# Altium schematic symbol library GVI_Z7_Carrier.SchLib: 1 symbol
Pins are listed as number, name and electrical type; pins without a type are passive.

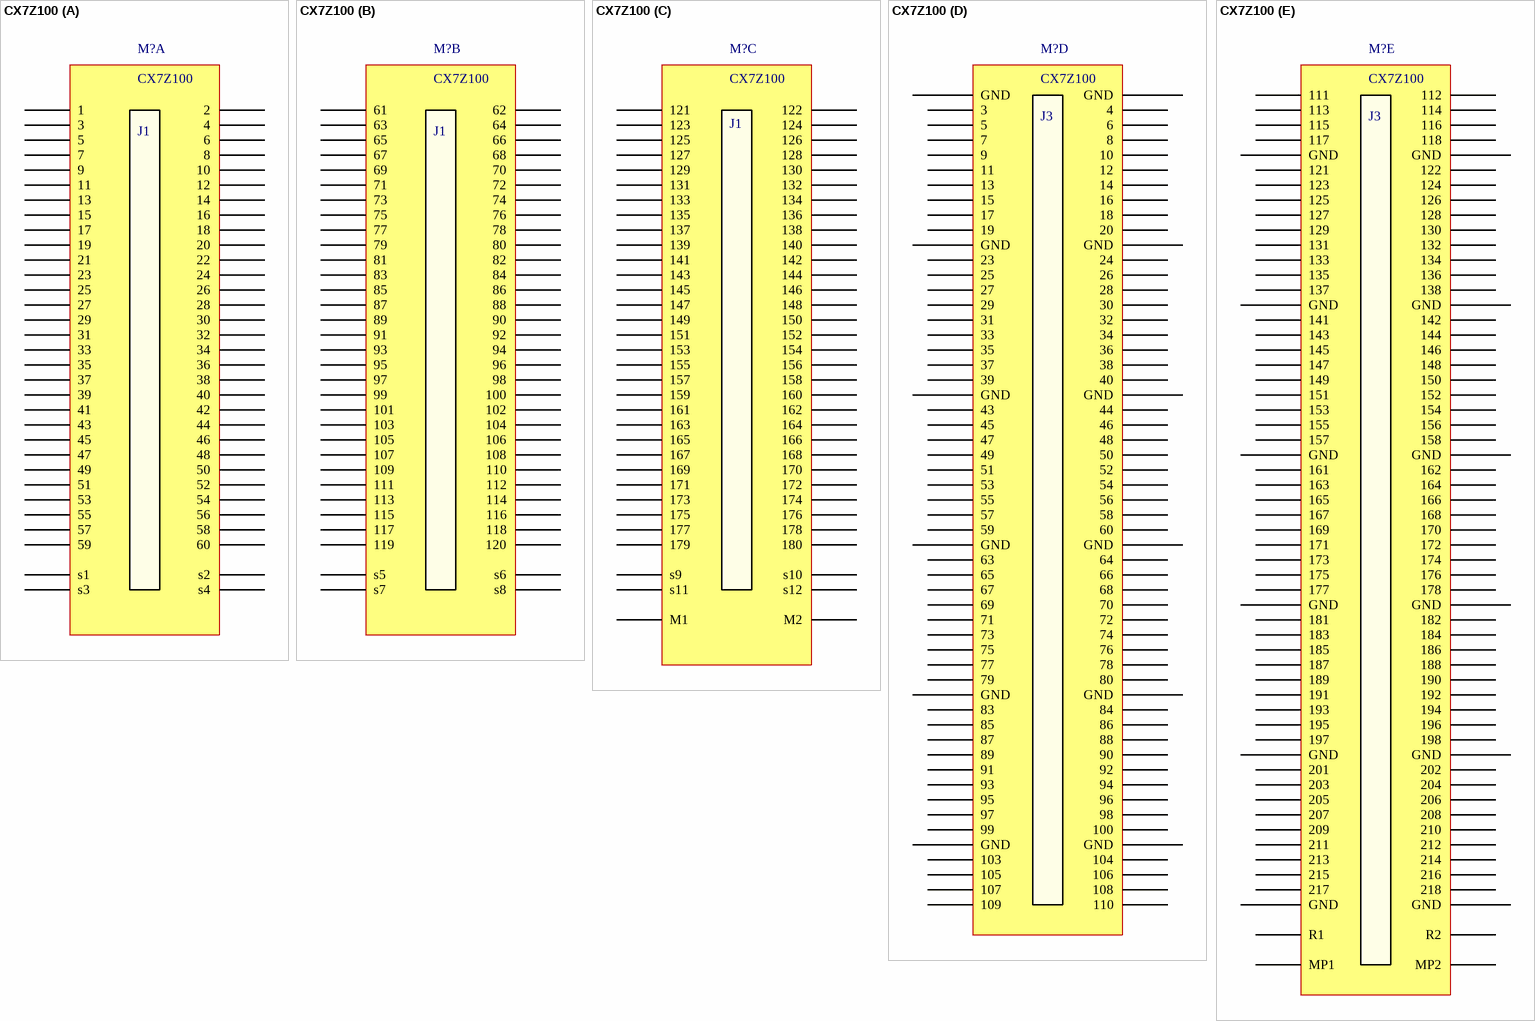
[diagram p0: symbol CX7Z100]

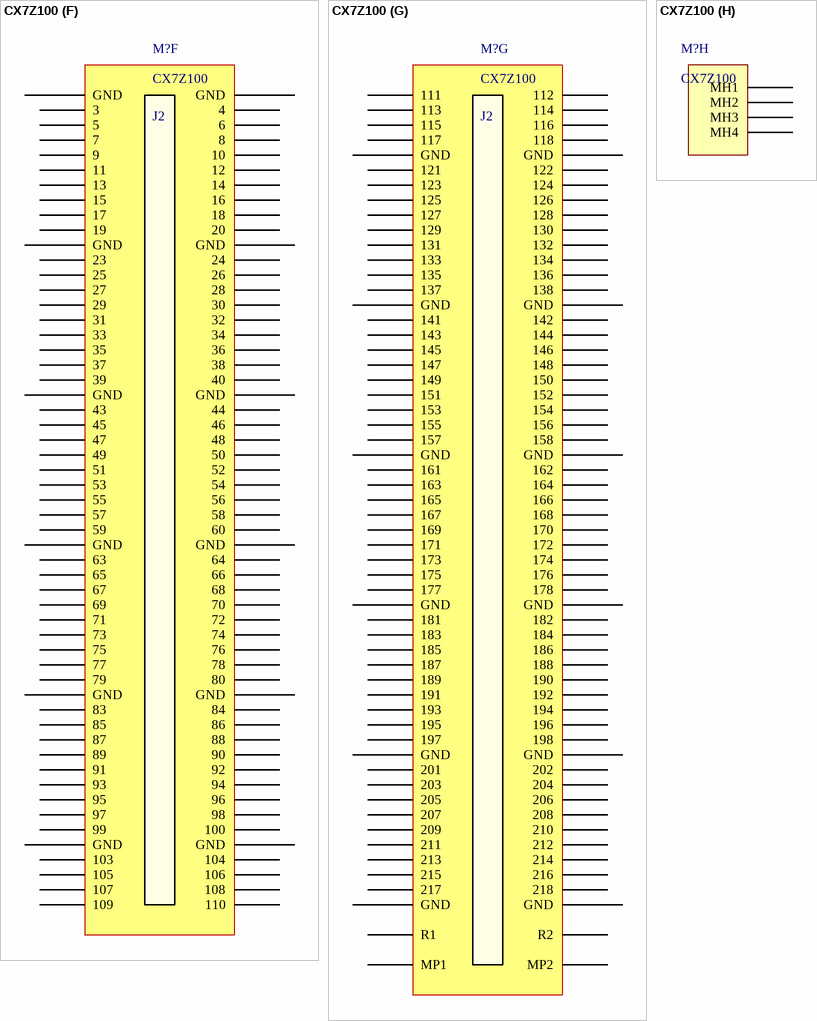
[diagram p1: symbol CX7Z100]

## CX7Z100
designator M?
footprint GVI_Z7_MiniModule_Socket
part A pins: 1, 2, 3, 4, 5, 6, 7, 8, 9, 10, 11, 12, 13, 14, 15, 16, 17, 18, 19, 20, 21, 22, 23, 24, 25, 26, 27, 28, 29, 30, 31, 32, 33, 34, 35, 36, 37, 38, 39, 40, 41, 42, 43, 44, 45, 46, 47, 48, 49, 50, 51, 52, 53, 54, 55, 56, 57, 58, 59, 60, s1, s2, s3, s4
part B pins: 61, 62, 63, 64, 65, 66, 67, 68, 69, 70, 71, 72, 73, 74, 75, 76, 77, 78, 79, 80, 81, 82, 83, 84, 85, 86, 87, 88, 89, 90, 91, 92, 93, 94, 95, 96, 97, 98, 99, 100, 101, 102, 103, 104, 105, 106, 107, 108, 109, 110, 111, 112, 113, 114, 115, 116, 117, 118, 119, 120, s5, s6, s7, s8
part C pins: 121, 122, 123, 124, 125, 126, 127, 128, 129, 130, 131, 132, 133, 134, 135, 136, 137, 138, 139, 140, 141, 142, 143, 144, 145, 146, 147, 148, 149, 150, 151, 152, 153, 154, 155, 156, 157, 158, 159, 160, 161, 162, 163, 164, 165, 166, 167, 168, 169, 170, 171, 172, 173, 174, 175, 176, 177, 178, 179, 180, M1, M2, s9, s10, s11, s12
part D pins: T1 GND, T2 GND, T3 3, T4 4, T5 5, T6 6, T7 7, T8 8, T9 9, T10 10, T11 11, T12 12, T13 13, T14 14, T15 15, T16 16, T17 17, T18 18, T19 19, T20 20, T21 GND, T22 GND, T23 23, T24 24, T25 25, T26 26, T27 27, T28 28, T29 29, T30 30, T31 31, T32 32, T33 33, T34 34, T35 35, T36 36, T37 37, T38 38, T39 39, T40 40, T41 GND, T42 GND, T43 43, T44 44, T45 45, T46 46, T47 47, T48 48, T49 49, T50 50, T51 51, T52 52, T53 53, T54 54, T55 55, T56 56, T57 57, T58 58, T59 59, T60 60, T61 GND, T62 GND, T63 63, T64 64, T65 65, T66 66, T67 67, T68 68, T69 69, T70 70, T71 71, T72 72, T73 73, T74 74, T75 75, T76 76, T77 77, T78 78, T79 79, T80 80, T81 GND, T82 GND, T83 83, T84 84, T85 85, T86 86, T87 87, T88 88, T89 89, T90 90, T91 91, T92 92, T93 93, T94 94, T95 95, T96 96, T97 97, T98 98, T99 99, T100 100, T101 GND, T102 GND, T103 103, T104 104, T105 105, T106 106, T107 107, T108 108, T109 109, T110 110
part E pins: T111 111, T112 112, T113 113, T114 114, T115 115, T116 116, T117 117, T118 118, T119 GND, T120 GND, T121 121, T122 122, T123 123, T124 124, T125 125, T126 126, T127 127, T128 128, T129 129, T130 130, T131 131, T132 132, T133 133, T134 134, T135 135, T136 136, T137 137, T138 138, T139 GND, T140 GND, T141 141, T142 142, T143 143, T144 144, T145 145, T146 146, T147 147, T148 148, T149 149, T150 150, T151 151, T152 152, T153 153, T154 154, T155 155, T156 156, T157 157, T158 158, T159 GND, T160 GND, T161 161, T162 162, T163 163, T164 164, T165 165, T166 166, T167 167, T168 168, T169 169, T170 170, T171 171, T172 172, T173 173, T174 174, T175 175, T176 176, T177 177, T178 178, T179 GND, T180 GND, T181 181, T182 182, T183 183, T184 184, T185 185, T186 186, T187 187, T188 188, T189 189, T190 190, T191 191, T192 192, T193 193, T194 194, T195 195, T196 196, T197 197, T198 198, T199 GND, T200 GND, T201 201, T202 202, T203 203, T204 204, T205 205, T206 206, T207 207, T208 208, T209 209, T210 210, T211 211, T212 212, T213 213, T214 214, T215 215, T216 216, T217 217, T218 218, T219 GND, T220 GND, TMP1 MP1, TMP2 MP2, TR1 R1, TR2 R2
part F pins: B1 GND, B2 GND, B3 3, B4 4, B5 5, B6 6, B7 7, B8 8, B9 9, B10 10, B11 11, B12 12, B13 13, B14 14, B15 15, B16 16, B17 17, B18 18, B19 19, B20 20, B21 GND, B22 GND, B23 23, B24 24, B25 25, B26 26, B27 27, B28 28, B29 29, B30 30, B31 31, B32 32, B33 33, B34 34, B35 35, B36 36, B37 37, B38 38, B39 39, B40 40, B41 GND, B42 GND, B43 43, B44 44, B45 45, B46 46, B47 47, B48 48, B49 49, B50 50, B51 51, B52 52, B53 53, B54 54, B55 55, B56 56, B57 57, B58 58, B59 59, B60 60, B61 GND, B62 GND, B63 63, B64 64, B65 65, B66 66, B67 67, B68 68, B69 69, B70 70, B71 71, B72 72, B73 73, B74 74, B75 75, B76 76, B77 77, B78 78, B79 79, B80 80, B81 GND, B82 GND, B83 83, B84 84, B85 85, B86 86, B87 87, B88 88, B89 89, B90 90, B91 91, B92 92, B93 93, B94 94, B95 95, B96 96, B97 97, B98 98, B99 99, B100 100, B101 GND, B102 GND, B103 103, B104 104, B105 105, B106 106, B107 107, B108 108, B109 109, B110 110
part G pins: B111 111, B112 112, B113 113, B114 114, B115 115, B116 116, B117 117, B118 118, B119 GND, B120 GND, B121 121, B122 122, B123 123, B124 124, B125 125, B126 126, B127 127, B128 128, B129 129, B130 130, B131 131, B132 132, B133 133, B134 134, B135 135, B136 136, B137 137, B138 138, B139 GND, B140 GND, B141 141, B142 142, B143 143, B144 144, B145 145, B146 146, B147 147, B148 148, B149 149, B150 150, B151 151, B152 152, B153 153, B154 154, B155 155, B156 156, B157 157, B158 158, B159 GND, B160 GND, B161 161, B162 162, B163 163, B164 164, B165 165, B166 166, B167 167, B168 168, B169 169, B170 170, B171 171, B172 172, B173 173, B174 174, B175 175, B176 176, B177 177, B178 178, B179 GND, B180 GND, B181 181, B182 182, B183 183, B184 184, B185 185, B186 186, B187 187, B188 188, B189 189, B190 190, B191 191, B192 192, B193 193, B194 194, B195 195, B196 196, B197 197, B198 198, B199 GND, B200 GND, B201 201, B202 202, B203 203, B204 204, B205 205, B206 206, B207 207, B208 208, B209 209, B210 210, B211 211, B212 212, B213 213, B214 214, B215 215, B216 216, B217 217, B218 218, B219 GND, B220 GND, BMP1 MP1, BMP2 MP2, BR1 R1, BR2 R2
part H pins: MH1, MH2, MH3, MH4
part A text: J1
part B text: J1
part C text: J1
part D text: J3
part E text: J3
part F text: J2
part G text: J2